# Altium footprint library JMPKG.PcbLib: 337 footprints (part 21 of 22)
Each footprint in its own frame and in the unit in brackets; x right, y up, seen from the top. Pads: shape width x height; smd on the part's side, far side on the other; paste and mask are expansions set on the pad; w line width, h text height; cw(c..) or ccw(c..) is an arc to the next point about the centre after c.
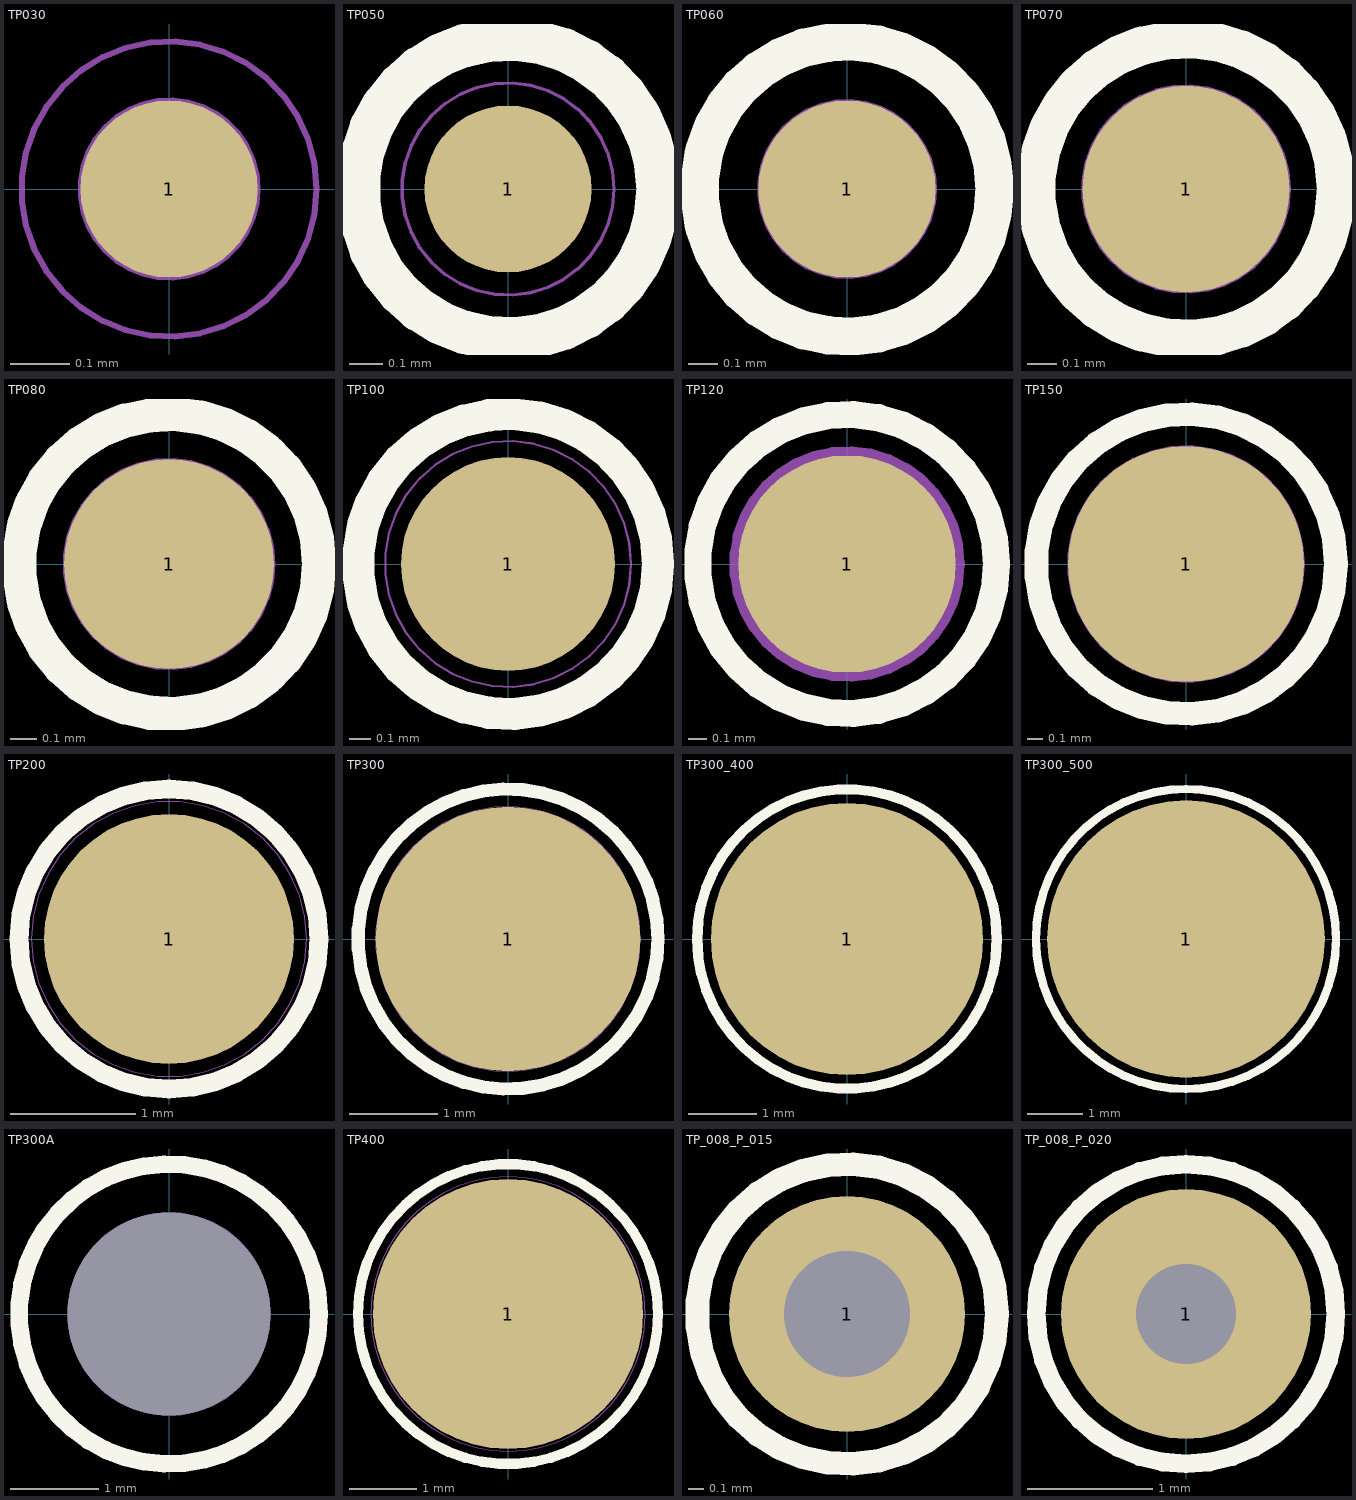
[diagram p20: the footprints below, top view; thin cyan lines are the x and y axes]

## TP030 [mm]
pads (1):
  round 0.3 smd mask+0.05: 1(0,0)
Mechanical 15:
  circle w0.01: c0,0 r0.15
Mechanical 20:
  circle w0.01: c0,0 r0.25

## TP050 [mm]
pads (1):
  round 0.5 smd mask+0.05: 1(0,0)
Top Overlay:
  circle w0.13: c0,0 r0.449
Mechanical 15:
  circle w0.01: c0,0 r0.318
Mechanical 20:
  circle w0.01: c0,0 r0.445

## TP060 [mm]
pads (1):
  round 0.6 smd mask+0.05: 1(0,0)
Top Overlay:
  circle w0.13: c0,0 r0.5
Mechanical 15:
  circle w0.01: c0,0 r0.3
Mechanical 20:
  circle w0.01: c0,0 r0.508

## TP070 [mm]
pads (1):
  round 0.7 smd mask+0.05: 1(0,0)
Top Overlay:
  circle w0.13: c0,0 r0.508
Mechanical 15:
  circle w0.01: c0,0 r0.35
Mechanical 20:
  circle w0.01: c0,0 r0.508

## TP080 [mm]
pads (1):
  round 0.8 smd mask+0.05: 1(0,0)
Top Overlay:
  circle w0.13: c0,0 r0.572
Mechanical 15:
  circle w0.01: c0,0 r0.4
Mechanical 20:
  circle w0.01: c0,0 r0.572

## TP100 [mm]
pads (1):
  round 1 smd mask+0.05: 1(0,0)
Top Overlay:
  circle w0.15: c0,0 r0.701
Mechanical 15:
  circle w0.01: c0,0 r0.575
Mechanical 20:
  circle w0.01: c0,0 r0.699

## TP120 [mm]
pads (1):
  round 1.2 smd mask+0.05: 1(0,0)
Top Overlay:
  circle w0.15: c0,0 r0.826
Mechanical 15:
  circle w0.1: c0,0 r0.6
Mechanical 20:
  circle w0.1: c0,0 r0.828

## TP150 [mm]
pads (1):
  round 1.5 smd mask+0.1: 1(0,0)
Top Overlay:
  circle w0.15: c0,0 r0.953
Mechanical 15:
  circle w0.01: c0,0 r0.75
Mechanical 20:
  circle w0.01: c0,0 r0.953

## TP200 [mm]
pads (1):
  round 2 smd mask+0.05: 1(0,0)
Top Overlay:
  circle w0.15: c0,0 r1.2
Mechanical 15:
  circle w0.01: c0,0 r1.1
Mechanical 20:
  circle w0.01: c0,0 r1.2

## TP300 [mm]
pads (1):
  round 3 smd mask+0.05: 1(0,0)
Top Overlay:
  circle w0.15: c0,0 r1.7
Mechanical 15:
  circle w0.01: c0,0 r1.5
Mechanical 20:
  circle w0.01: c0,0 r1.7

## TP300_400 [mm]
pads (1):
  round 4 smd mask-0.5: 1(0,0)
Top Overlay:
  circle w0.15: c0,0 r2.2
Mechanical 15:
  circle w0.01: c0,0 r1.5
Mechanical 20:
  circle w0.01: c0,0 r2.202

## TP300_500 [mm]
pads (1):
  round 5 smd mask-1: 1(0,0)
Top Overlay:
  circle w0.15: c0,0 r2.702
Mechanical 15:
  circle w0.01: c0,0 r1.5
Mechanical 20:
  circle w0.01: c0,0 r2.702

## TP300A [mm]
pads (1):
  round 0 / inner rrect100% 0x0 / far side rrect100% 0x0 hole 2.3 unplated: 1(0,0)
Top Overlay:
  circle w0.2: c0,0 r1.7
Mechanical 15:
  circle w0.01: c0,0 r1.15
Mechanical 16:
  circle w0.01: c0,0 r1.15
Mechanical 20:
  circle w0.01: c0,0 r1.7

## TP400 [mm]
pads (1):
  round 4 smd mask+0.05: 1(0,0)
Top Overlay:
  circle w0.15: c0,0 r2.222
Mechanical 15:
  circle w0.01: c0,0 r2.032
Mechanical 20:
  circle w0.01: c0,0 r2.222

## TP_008_P_015 [mm]
pads (1):
  round 1.5 hole 0.8 mask+0.05: 1(0,0)
Top Overlay:
  circle w0.15: c0,0 r0.953
Mechanical 15:
  circle w0.1: c0,0 r0.4
Mechanical 16:
  circle w0.1: c0,0 r0.4
Mechanical 20:
  circle w0.1: c0,0 r0.953

## TP_008_P_020 [mm]
pads (1):
  round 2 hole 0.8 mask+0.05: 1(0,0)
Top Overlay:
  circle w0.15: c0,0 r1.2
Bottom Overlay:
  circle w0.15: c0,0 r1.2
Mechanical 15:
  circle w0.1: c0,0 r0.4
Mechanical 16:
  circle w0.1: c0,0 r0.4
Mechanical 20:
  circle w0.1: c0,0 r1.201